# Altium integrated library PushButton04_4Pin.IntLib: 1 symbol
Pins are listed as number, name and electrical type; pins without a type are passive.

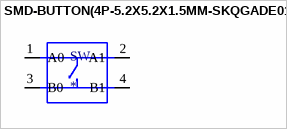
[diagram p0: symbol SMD-BUTTON(4P-5.2X5.2X1.5MM-SKQGADE010)]

## SMD-BUTTON(4P-5.2X5.2X1.5MM-SKQGADE010)
designator SW
Switch Tactile N.O. SPST Round Button Gull Wing 0.05A 12VDC 2.55N SMD T/R; MF: ALPS; MP: SKQGADE010; Value: *; Price: None; Package: FakePackage u; SnapEDA_Link: https://www.snapeda.com/parts/SKQGADE010/ALPS/view-part/106172/?ref=snap; Availability: Unavailable
footprint SW4-SMD-5.2X5.2X1.5MM
pins: 1 A0 (io), 2 A1 (io), 3 B0 (io), 4 B1 (io)